# EAGLE library part AT42QT2120 (library deiring-components)
Capacitive Touch Sensor
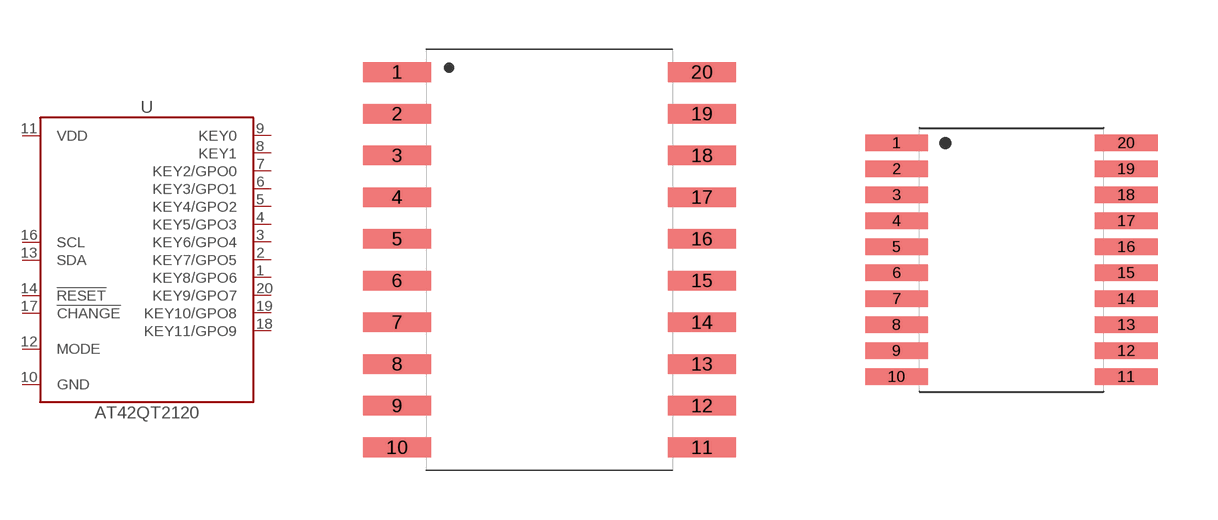
[diagram p7: symbol with the pads of SOIC-20; footprints SOIC-20, TSSOP-20]

Designator prefix U

## AT42QT2120-SOIC-20 (LCSC: C1522282; MF: Microchip Tech; MPN: AT42QT2120-SU; VALUE: AT42QT2120)  [SOIC-20]
1  KEY8/GPO6
2  KEY7/GPO5
3  KEY6/GPO4
4  KEY5/GPO3
5  KEY4/GPO2
6  KEY3/GPO1
7  KEY2/GPO0
8  KEY1
9  KEY0
10  GND  pwr
11  VDD  pwr
12  MODE
13  SDA
14  !RESET
16  SCL
17  !CHANGE  out
18  KEY11/GPO9
19  KEY10/GPO8
20  KEY9/GPO7

## AT42QT2120-TSSOP-20 (LCSC: C1522278; MF: Microchip Tech; MPN: AT42QT2120-XU; VALUE: AT42QT2120)  [TSSOP-20]
Pads as for SOIC-20

## Footprint SOIC-20 (pad centres in mm)
smd 2.06 x 0.6: 1 -4.64,5.715; 2 -4.64,4.445; 3 -4.64,3.175; 4 -4.64,1.905; 5 -4.64,0.635; 6 -4.64,-0.635; 7 -4.64,-1.905; 8 -4.64,-3.175; 9 -4.64,-4.445; 10 -4.64,-5.715; 11 4.64,-5.715; 12 4.64,-4.445; 13 4.64,-3.175; 14 4.64,-1.905; 15 4.64,-0.635; 16 4.64,0.635; 17 4.64,1.905; 18 4.64,3.175; 19 4.64,4.445; 20 4.64,5.715

## Footprint TSSOP-20 (pad centres in mm)
smd 1.572 x 0.407: 1 -2.872,2.925; 2 -2.872,2.275; 3 -2.872,1.625; 4 -2.872,0.975; 5 -2.872,0.325; 6 -2.872,-0.325; 7 -2.872,-0.975; 8 -2.872,-1.625; 9 -2.872,-2.275; 10 -2.872,-2.925; 11 2.872,-2.925; 12 2.872,-2.275; 13 2.872,-1.625; 14 2.872,-0.975; 15 2.872,-0.325; 16 2.872,0.325; 17 2.872,0.975; 18 2.872,1.625; 19 2.872,2.275; 20 2.872,2.925